# EAGLE library part CL-SB-22B-12T (library wedfestdress)
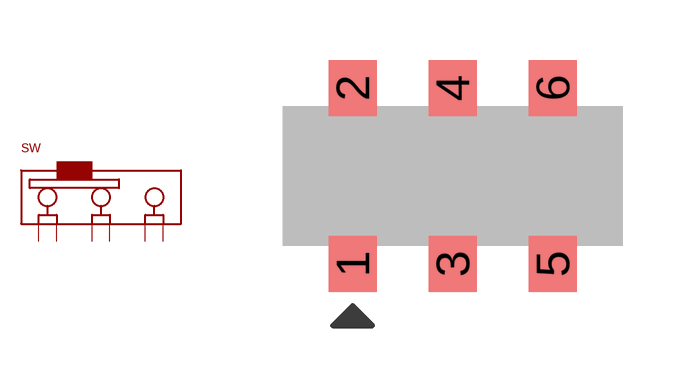
[diagram p6: symbol with the pads of CL-SB-22B-12T; footprint CL-SB-22B-12T]

Designator prefix SW

## CL-SB-22B-12T (COST_X1: 1.35; COST_X100: 1.0771; COST_X500: 1.0502; DESCRIPTION: Switch, SPDT, Sub-Miniature, RA, SMT; DISPLAY: SPDT, RA; DISTRIBUTOR: Digikey; DIST_PART_NO: 563-1345-1-ND; MFG: Copal; MFG_PART_NO: CL-SB-22B-12T; PACKAGE: SMT)  [CL-SB-22B-12T]
1  1
2  2
3  3
4  4
5  5
6  6

## Footprint CL-SB-22B-12T (pad centres in mm)
smd 1.2 x 1.4: 1 -2.5,-2.2; 2 -2.5,2.2; 3 0,-2.2; 4 0,2.2; 5 2.5,-2.2; 6 2.5,2.2